# EAGLE library part LY330AL (library MAÑE)
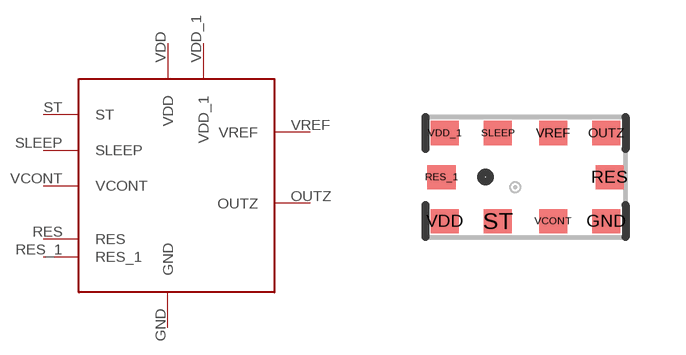
[diagram p17: symbol with the pads of LGA-10; footprint LGA-10]

Designator prefix -

## LY330AL  [LGA-10]
GND  GND
OUTZ  OUTZ
RES  RES
RES_1  RES_1
SLEEP  SLEEP
ST  ST
VCONT  VCONT
VDD  VDD
VDD_1  VDD_1
VREF  VREF

## Footprint LGA-10 (pad centres in mm)
smd 0.7 x 0.6: GND 2.018,-1.1; OUTZ 2.018,1.1; RES 2.1,0; RES_1 -2.1,0; SLEEP -0.691,1.1; ST -0.691,-1.1; VCONT 0.691,-1.1; VDD -2.018,-1.1; VDD_1 -2.018,1.1; VREF 0.691,1.1